# EAGLE library part HD14051BP (library hd14051bp)
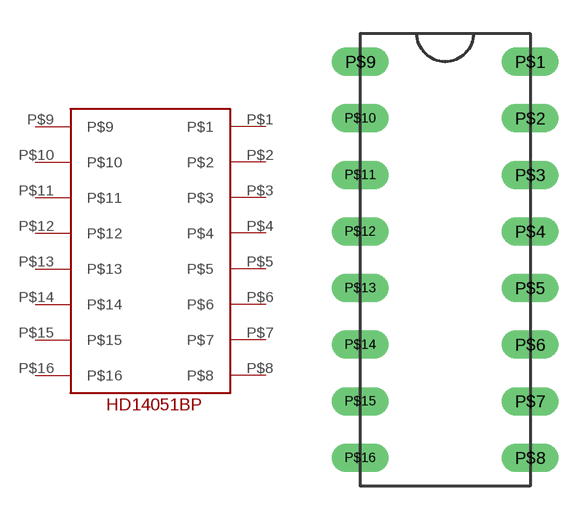
[diagram p0: symbol with the pads of HD14051BP; footprint HD14051BP]

Designator prefix -

## HD14051BP  [HD14051BP]
P$1  P$1
P$2  P$2
P$3  P$3
P$4  P$4
P$5  P$5
P$6  P$6
P$7  P$7
P$8  P$8
P$9  P$9
P$10  P$10
P$11  P$11
P$12  P$12
P$13  P$13
P$14  P$14
P$15  P$15
P$16  P$16

## Footprint HD14051BP (pad centres in mm)
drill 0.6 pad 1.27 long: P$1 2.54,6.35; P$2 2.54,3.81; P$3 2.54,1.27; P$4 2.54,-1.27; P$5 2.54,-3.81; P$6 2.54,-6.35; P$7 2.54,-8.89; P$8 2.54,-11.43; P$9 -5.08,6.35; P$10 -5.08,3.81; P$11 -5.08,1.27; P$12 -5.08,-1.27; P$13 -5.08,-3.81; P$14 -5.08,-6.35; P$15 -5.08,-8.89; P$16 -5.08,-11.43